# Altium footprint library Inductors SMD.PcbLib: 75 footprints (part 1 of 5)
Each footprint in its own frame and in the unit in brackets; x right, y up, seen from the top. Pads: shape width x height; smd on the part's side, far side on the other; paste and mask are expansions set on the pad; w line width, h text height; cw(c..) or ccw(c..) is an arc to the next point about the centre after c.
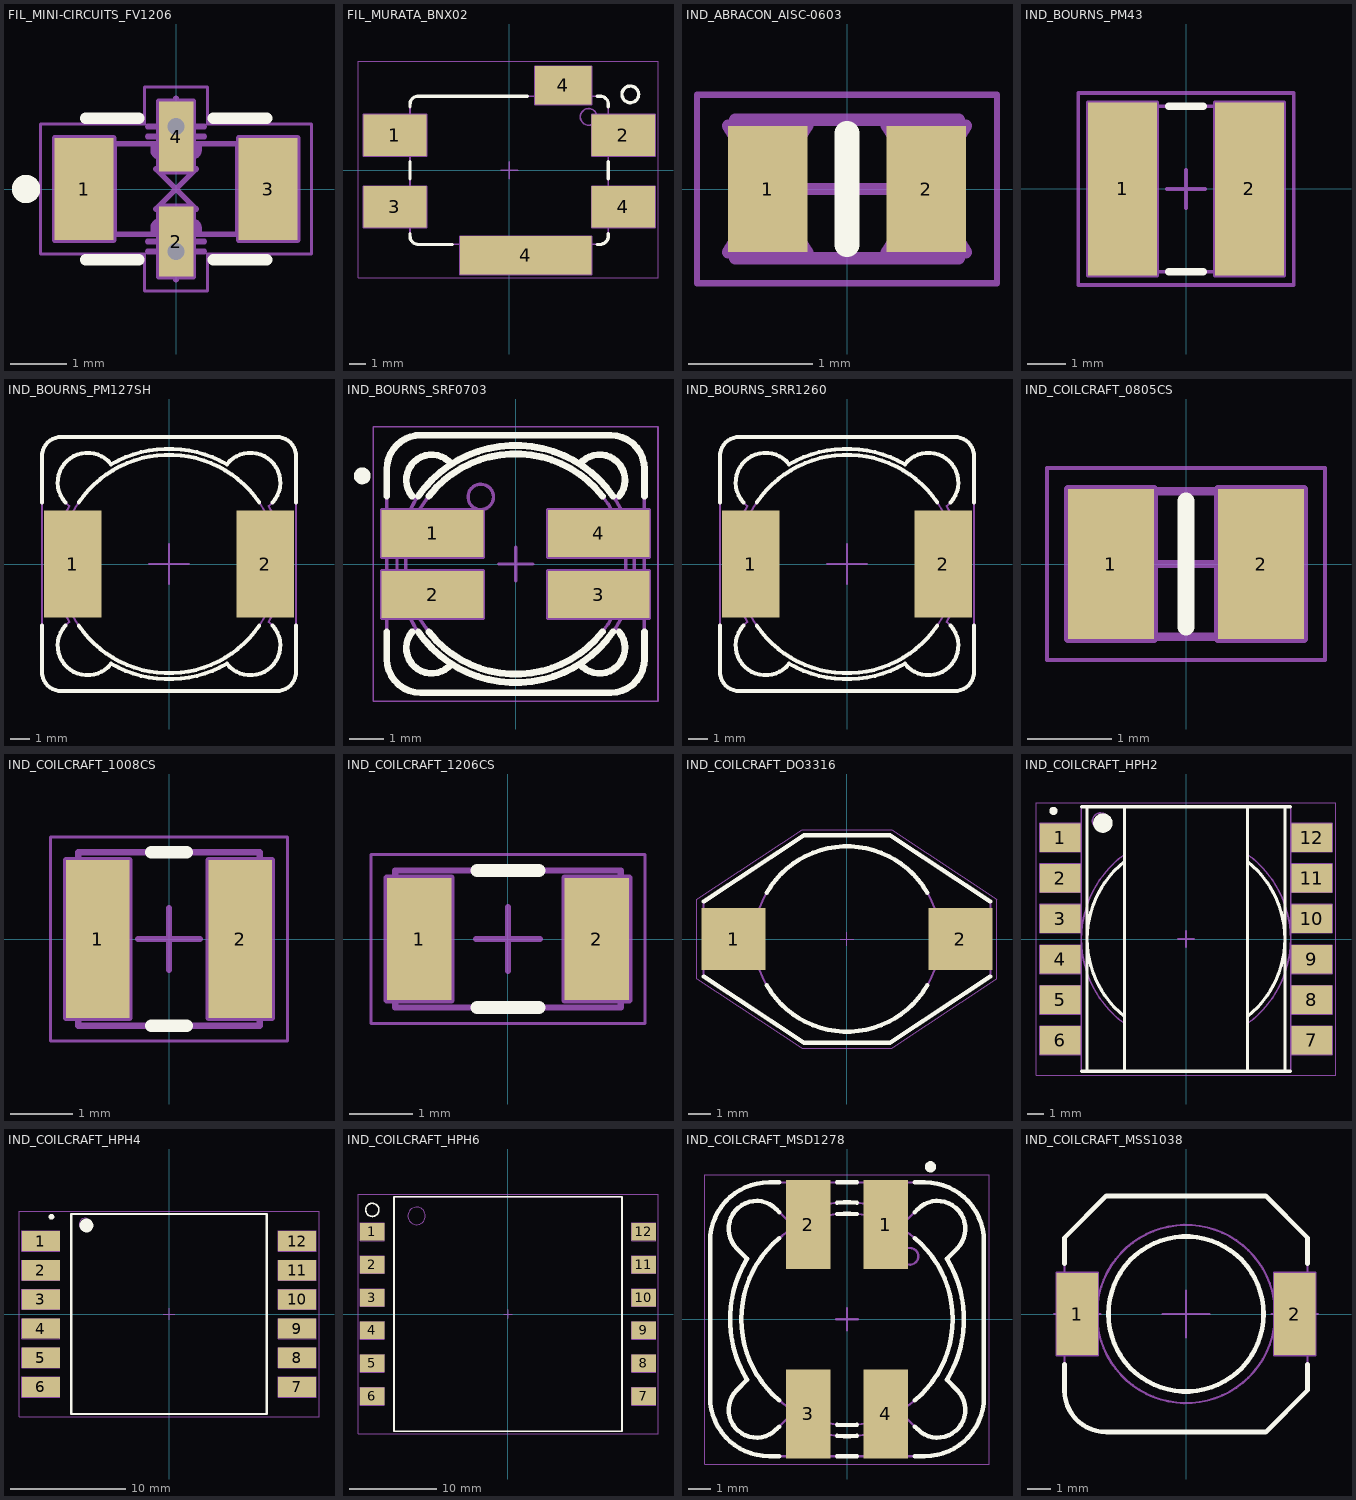
[diagram p0: the footprints below, top view; thin cyan lines are the x and y axes]

## FIL_MINI-CIRCUITS_FV1206 [mm] "MINI-CIRCUITS Case FV1206 - Body 3.2x1.6mm"
height 0.94
pads (4):
  rect 1.04x1.8 smd: 1(-1.625,0) 3(1.625,0)
  rect 0.61x1.245 smd: 2(0,-0.928) 4(0,0.927)
via 0,1.105 diameter 0.6 hole 0.3
via 0,-1.105 diameter 0.6 hole 0.3
Top Overlay:
  circle w0.25: c-2.65,0 r0.125
  lines w0.2: -1.6,-1.25 -0.655,-1.25 ; -1.6,1.25 -0.655,1.25 ; 0.655,-1.25 1.6,-1.25 ; 0.655,1.25 1.6,1.25
Mechanical 8:
  lines w0.1: -2.125,0 -1.625,0 ; -1.625,-0.5 -1.625,0 ; -1.625,0.5 -1.625,0 ; -1.125,0 -1.625,0 ; -0.5,-1.105 0,-1.105 ; -0.5,-0.928 0,-0.928 ; -0.5,0.927 0,0.927 ; -0.5,1.105 0,1.105 ; -0.354,-0.354 0,0 ; -0.354,0.353 0,0 ; 0,-1.605 0,-1.105 ; 0,-0.428 0,-0.928 ; 0,0.427 0,0.927 ; 0,1.605 0,1.105 ; 0.354,-0.354 0,0 ; 0.354,0.353 0,0 ; 0.5,-1.105 0,-1.105 ; 0.5,-0.928 0,-0.928 ; 0.5,0.927 0,0.927 ; 0.5,1.105 0,1.105 ; 1.125,0 1.625,0 ; 1.625,-0.5 1.625,0 ; 1.625,0.5 1.625,0 ; 2.125,0 1.625,0 ; -2.145,-0.9 -2.145,0.9 -1.105,0.9 -1.105,-0.9 -2.145,-0.9 ; -0.305,-1.55 0.305,-1.55 0.305,-0.305 -0.305,-0.305 -0.305,-1.55 ; -0.305,0.305 0.305,0.305 0.305,1.55 -0.305,1.55 -0.305,0.305 ; 1.105,-0.9 1.105,0.9 2.145,0.9 2.145,-0.9 1.105,-0.9
Mechanical 14:
  lines w0.1: -1.5,-0.8 -1.5,0.8 ; -1.4,-0.8 -1.4,0.8 ; -1.3,-0.8 -1.3,0.8 ; -1.2,-0.8 -1.2,0.8 ; -1.1,-0.8 -1.1,0.8 ; -1.09,-0.8 -1.09,0.8 ; -1.09,-0.8 -1.6,-0.8 -1.6,0.8 -1.09,0.8 ; -1.09,-0.8 1.09,-0.8 ; -1.09,-0.8 -1.09,0.8 ; -1.09,0.8 1.09,0.8 ; 1.09,-0.8 1.09,0.8 ; 1.09,-0.8 1.6,-0.8 1.6,0.8 1.09,0.8 ; 1.09,-0.8 1.09,0.8 ; -0.405,-0.8 0.405,-0.8 0.405,-0.685 ccw(c0.29,-0.685) 0.29,-0.57 -0.29,-0.57 ccw(c-0.29,-0.685) -0.405,-0.685 -0.405,-0.8 ; -0.405,0.685 ccw(c-0.29,0.685) -0.29,0.57 0.29,0.57 ccw(c0.29,0.685) 0.405,0.685 0.405,0.8 -0.405,0.8 -0.405,0.685
Mechanical 15:
  lines w0.05: -2.395,-1.15 -2.395,1.15 -0.555,1.15 -0.555,1.8 0.555,1.8 0.555,1.15 2.395,1.15 2.395,-1.15 0.555,-1.15 0.555,-1.8 -0.555,-1.8 -0.555,-1.15 -2.395,-1.15
Drill Drawing:
  lines w0.1: -0.555,-1.05 -0.555,-1.8 0.555,-1.8 0.555,-1.05 ; -0.555,1.05 -0.555,1.8 0.555,1.8 0.555,1.05
  text "capped via" at -2.45,-0.55 h0.5
  text "Filled and" at -2.4,0.2 h0.5
3D body "FIL_MINI-CIRCUITS_FV1206.stp": height 0.94, standoff 0, extent -1.6,-0.8 1.6,0.8

## FIL_MURATA_BNX02 [mm] "Block Type EMIFIL LC Combined Type, BNX02* Series"
height 3.3
pads (6):
  rect 3.8x2.5 smd: 1(-6.85,2.1) 2(6.85,2.1) 3(-6.85,-2.2) 4(6.85,-2.2)
  rect 7.9x2.3 smd: 4(1,-5.1)
  rect 3.4x2.3 smd: 4(3.25,5.1)
Top Overlay:
  circle w0.2: c7.268,4.554 r0.5
  lines w0.2: -5.95,-3.8 -5.95,-3.95 ccw(c-5.45,-3.95) -5.45,-4.45 -3.42,-4.45 ; -5.95,-0.5 -5.95,0.5 ; -5.95,3.8 -5.95,3.95 cw(c-5.45,3.95) -5.45,4.45 1.08,4.45 ; 5.28,-4.45 5.45,-4.45 ccw(c5.45,-3.95) 5.95,-3.95 5.95,-3.8 ; 5.28,4.45 5.45,4.45 cw(c5.45,3.95) 5.95,3.95 5.95,3.8 ; 5.95,-0.5 5.95,0.5
Mechanical 8:
  lines w0.1: -7.35,-2.2 -6.85,-2.2 ; -7.35,2.1 -6.85,2.1 ; -6.85,-2.7 -6.85,-2.2 ; -6.85,-1.7 -6.85,-2.2 ; -6.85,1.6 -6.85,2.1 ; -6.85,2.6 -6.85,2.1 ; -6.35,-2.2 -6.85,-2.2 ; -6.35,2.1 -6.85,2.1 ; -0.5,0 0,0 ; 0,-0.5 0,0 ; 0,0.5 0,0 ; 0.5,-5.1 1,-5.1 ; 0.5,0 0,0 ; 1,-5.6 1,-5.1 ; 1,-4.6 1,-5.1 ; 1.5,-5.1 1,-5.1 ; 2.75,5.1 3.25,5.1 ; 3.25,4.6 3.25,5.1 ; 3.25,5.6 3.25,5.1 ; 3.75,5.1 3.25,5.1 ; 6.35,-2.2 6.85,-2.2 ; 6.35,2.1 6.85,2.1 ; 6.85,-2.7 6.85,-2.2 ; 6.85,-1.7 6.85,-2.2 ; 6.85,1.6 6.85,2.1 ; 6.85,2.6 6.85,2.1 ; 7.35,-2.2 6.85,-2.2 ; 7.35,2.1 6.85,2.1 ; -8.75,-3.45 -8.75,-0.95 -4.95,-0.95 -4.95,-3.45 -8.75,-3.45 ; -8.75,0.85 -4.95,0.85 -4.95,3.35 -8.75,3.35 -8.75,0.85 ; -2.95,-6.25 -2.95,-3.95 4.95,-3.95 4.95,-6.25 -2.95,-6.25 ; 1.55,3.95 4.95,3.95 4.95,6.25 1.55,6.25 1.55,3.95 ; 4.95,-3.45 8.75,-3.45 8.75,-0.95 4.95,-0.95 4.95,-3.45 ; 4.95,0.85 4.95,3.35 8.75,3.35 8.75,0.85 4.95,0.85
Mechanical 14:
  circle w0.1: c4.768,3.204 r0.5
  lines w0.1: -5.95,-2.75 -6.05,-2.75 -6.05,-1.45 -5.95,-1.45 ; -5.95,1.45 -6.05,1.45 -6.05,2.75 -5.95,2.75 ; -2.5,-4.45 -2.5,-4.55 4.5,-4.55 4.5,-4.45 ; 2,4.45 2,4.55 4.5,4.55 4.5,4.45 ; 5.95,-2.75 6.05,-2.75 6.05,-1.45 5.95,-1.45 ; 5.95,1.45 6.05,1.45 6.05,2.75 5.95,2.75 ; -5.95,-3.95 ccw(c-5.45,-3.95) -5.45,-4.45 5.45,-4.45 ccw(c5.45,-3.95) 5.95,-3.95 5.95,3.95 ccw(c5.45,3.95) 5.45,4.45 -5.45,4.45 ccw(c-5.45,3.95) -5.95,3.95 -5.95,-3.95
Mechanical 15:
  lines w0.05: -9.07,-6.45 8.93,-6.45 8.93,6.55 -9.07,6.55 -9.07,-6.45
3D body "FIL_MURATA_BNX02.stp": height 3.1, standoff 0, extent -6.05,-4.55 6.05,4.55

## IND_ABRACON_AISC-0603 [mm] "Inductor, Molded Body; 1.8mm L X 1.12mm W, AISC-0603 Serie"
height 1.02
pads (2):
  rect 0.64x1.02 smd: 1(-0.64,0) 2(0.64,0)
Top Overlay:
  lines w0.2: 0,-0.45 0,0.45
Mechanical 8:
  lines w0.1: -0.96,-0.51 -0.64,0 ; -0.96,0.51 -0.64,0 ; -0.5,0 0,0 ; -0.32,-0.51 -0.64,0 ; -0.32,0.51 -0.64,0 ; 0,-0.5 0,0 ; 0,0.5 0,0 ; 0.32,-0.51 0.64,0 ; 0.32,0.51 0.64,0 ; 0.5,0 0,0 ; 0.96,-0.51 0.64,0 ; 0.96,0.51 0.64,0
Mechanical 14:
  lines w0.1: -0.9,-0.56 -0.9,0.56 0.9,0.56 0.9,-0.56 -0.9,-0.56
Mechanical 15:
  lines w0.05: -1.21,-0.76 1.21,-0.76 1.21,0.76 -1.21,0.76 -1.21,-0.76
3D body "IND_ABRACON_AISC-0603.stp": height 1, standoff 0, extent -0.9,-0.56 0.9,0.56

## IND_BOURNS_PM43 [mm] "SMD Inductor  Body Width 4.5mm Body Lenght 4mm Height 3.5mm"
height 3.5
pads (2):
  rect 1.8x4.5 smd: 1(-1.65,0) 2(1.65,0)
Top Overlay:
  lines w0.2: -0.45,-2.15 0.45,-2.15 ; -0.45,2.15 0.45,2.15
Mechanical 8:
  lines w0.1: -2.15,0 -1.65,0 ; -1.65,-0.5 -1.65,0 ; -1.65,0.5 -1.65,0 ; -1.15,0 -1.65,0 ; -0.5,0 0,0 ; 0,-0.5 0,0 ; 0,0.5 0,0 ; 0.5,0 0,0 ; 1.15,0 1.65,0 ; 1.65,-0.5 1.65,0 ; 1.65,0.5 1.65,0 ; 2.15,0 1.65,0 ; -2.55,-2.25 -0.75,-2.25 -0.75,2.25 -2.55,2.25 -2.55,-2.25 ; 0.75,-2.25 2.55,-2.25 2.55,2.25 0.75,2.25 0.75,-2.25
Mechanical 14:
  lines w0.1: -0.75,-2.15 -0.75,2.15 ; 0.75,-2.15 0.75,2.15 ; -2.381,-0.3 ccw(c0,0) -1.067,-2.15 1.067,-2.15 ccw(c0,0) 2.381,-0.3 2.1,-0.3 cw(c2.1,0) 2.1,0.3 2.381,0.3 ccw(c0,0) 1.067,2.15 -1.067,2.15 ccw(c0,0) -2.381,0.3 -2.1,0.3 cw(c-2.1,0) -2.1,-0.3 -2.381,-0.3
Mechanical 15:
  lines w0.1: -2.8,-2.5 -2.8,2.5 2.8,2.5 2.8,-2.5 -2.8,-2.5
3D body "IND_BOURNS_PM43.stp": height 3.5, standoff 0, extent -2.381,-2.15 2.381,2.15

## IND_BOURNS_PM127SH [mm] "SMD Inductor  Body Width 12.5mm Body Lenght 12.5mm Height 8mm"
height 8
pads (2):
  rect 2.9x5.4 smd: 1(-4.85,0) 2(4.85,0)
Top Overlay:
  lines w0.2: -6.4,-3.1 -6.4,-5.4 ccw(c-5.4,-5.4) -5.4,-6.4 5.4,-6.4 ccw(c5.4,-5.4) 6.4,-5.4 6.4,-3.1 ; -6.4,3.1 -6.4,5.4 cw(c-5.4,5.4) -5.4,6.4 5.4,6.4 cw(c5.4,5.4) 6.4,5.4 6.4,3.1 ; -5.218,-3.1 ccw(c-4.101,-4.101) -2.912,-5.016 ccw(c0,0) 2.912,-5.016 ccw(c4.101,-4.101) 5.218,-3.1 ; -5.218,3.1 cw(c-4.101,4.101) -2.912,5.016 cw(c0,0) 2.912,5.016 cw(c4.101,4.101) 5.218,3.1 ; -4.543,-3.1 ccw(c0,0) 4.543,-3.1 ; -4.543,3.1 cw(c0,0) 4.543,3.1
Mechanical 8:
  lines w0.1: -5.85,0 -4.85,0 ; -4.85,-1 -4.85,0 ; -4.85,1 -4.85,0 ; -3.85,0 -4.85,0 ; -1,0 0,0 ; 0,-1 0,0 ; 0,1 0,0 ; 1,0 0,0 ; 3.85,0 4.85,0 ; 4.85,-1 4.85,0 ; 4.85,1 4.85,0 ; 5.85,0 4.85,0
Mechanical 14:
  circle w0.1: c0,0 r5.5
  lines w0.1: -6.4,-5.4 ccw(c-5.4,-5.4) -5.4,-6.4 5.4,-6.4 ccw(c5.4,-5.4) 6.4,-5.4 6.4,5.4 ccw(c5.4,5.4) 5.4,6.4 -5.4,6.4 ccw(c-5.4,5.4) -6.4,5.4 -6.4,-5.4 ; -5.016,-2.912 ccw(c-4.101,-4.101) -2.912,-5.016 ccw(c0,0) 2.912,-5.016 ccw(c4.101,-4.101) 5.016,-2.912 ccw(c0,0) 5.016,2.912 ccw(c4.101,4.101) 2.912,5.016 ccw(c0,0) -2.912,5.016 ccw(c-4.101,4.101) -5.016,2.912 ccw(c0,0) -5.016,-2.912
3D body "IND_BOURNS_PM127SH.stp": height 8, standoff 0, extent -6.4,-6.4 6.4,6.4

## IND_BOURNS_SRF0703 [mm] "SMD Inductor  Body Width 7.6mm Body Lenght 7.6mm Height 3.6mm"
height 3.6
pads (4):
  rect 3x1.4 smd: 1(-2.45,0.9) 2(-2.45,-0.9) 3(2.45,-0.9) 4(2.45,0.9)
Top Overlay:
  circle w0.25: c-4.525,2.6 r0.125
  lines w0.2: -3.8,-2 -3.8,-2.8 ccw(c-2.8,-2.8) -2.8,-3.8 2.8,-3.8 ccw(c2.8,-2.8) 3.8,-2.8 3.8,-2 ; -3.8,2 -3.8,2.8 cw(c-2.8,2.8) -2.8,3.8 2.8,3.8 cw(c2.8,2.8) 3.8,2.8 3.8,2 ; -3.055,-2 ccw(c-2.475,-2.475) -1.891,-2.945 ; -3.055,2 cw(c-2.475,2.475) -1.891,2.945 ; -2.872,-2 ccw(c0,0) 2.872,-2 ; -2.872,2 cw(c0,0) 2.872,2 ; -2.562,-2 ccw(c0,0) 2.562,-2 ; -2.562,2 cw(c0,0) 2.562,2 ; 1.891,-2.945 ccw(c2.475,-2.475) 3.055,-2 ; 1.891,2.945 cw(c2.475,2.475) 3.055,2
Mechanical 8:
  lines w0.1: -2.95,-0.9 -2.45,-0.9 ; -2.95,0.9 -2.45,0.9 ; -2.45,-1.4 -2.45,-0.9 ; -2.45,-0.4 -2.45,-0.9 ; -2.45,0.4 -2.45,0.9 ; -2.45,1.4 -2.45,0.9 ; -1.95,-0.9 -2.45,-0.9 ; -1.95,0.9 -2.45,0.9 ; -0.5,0 0,0 ; 0,-0.5 0,0 ; 0,0.5 0,0 ; 0.5,0 0,0 ; 1.95,-0.9 2.45,-0.9 ; 1.95,0.9 2.45,0.9 ; 2.45,-1.4 2.45,-0.9 ; 2.45,-0.4 2.45,-0.9 ; 2.45,0.4 2.45,0.9 ; 2.45,1.4 2.45,0.9 ; 2.95,-0.9 2.45,-0.9 ; 2.95,0.9 2.45,0.9 ; -3.95,-1.6 -0.95,-1.6 -0.95,-0.2 -3.95,-0.2 -3.95,-1.6 ; -3.95,0.2 -0.95,0.2 -0.95,1.6 -3.95,1.6 -3.95,0.2 ; 0.95,-1.6 0.95,-0.2 3.95,-0.2 3.95,-1.6 0.95,-1.6 ; 0.95,0.2 0.95,1.6 3.95,1.6 3.95,0.2 0.95,0.2
Mechanical 14:
  circle w0.1: c0,0 r3.5
  circle w0.1: c0,0 r3.25
  circle w0.1: c-1.028,1.978 r0.375
  lines w0.1: -2.945,-1.891 ccw(c-2.475,-2.475) -1.891,-2.945 ; -2.945,1.891 cw(c-2.475,2.475) -1.891,2.945 ; 1.891,-2.945 ccw(c2.475,-2.475) 2.945,-1.891 ; 1.891,2.945 cw(c2.475,2.475) 2.945,1.891 ; -3.8,-2.8 ccw(c-2.8,-2.8) -2.8,-3.8 2.8,-3.8 ccw(c2.8,-2.8) 3.8,-2.8 3.8,2.8 ccw(c2.8,2.8) 2.8,3.8 -2.8,3.8 ccw(c-2.8,2.8) -3.8,2.8 -3.8,-2.8
Mechanical 15:
  lines w0.05: -4.2,-4.05 -4.2,4.05 4.2,4.05 4.2,-4.05 -4.2,-4.05
3D body "IND_BOURNS_SRF0703.stp": height 3.6, standoff 0, extent -3.8,-3.8 3.8,3.8

## IND_BOURNS_SRR1260 [mm] "SMD Inductor  Body Width 12.5mm Body Lenght 12.5mm Height 6.5mm"
height 6.5
pads (2):
  rect 2.9x5.4 smd: 1(-4.85,0) 2(4.85,0)
Top Overlay:
  lines w0.2: -6.4,-3.1 -6.4,-5.4 ccw(c-5.4,-5.4) -5.4,-6.4 5.4,-6.4 ccw(c5.4,-5.4) 6.4,-5.4 6.4,-3.1 ; -6.4,3.1 -6.4,5.4 cw(c-5.4,5.4) -5.4,6.4 5.4,6.4 cw(c5.4,5.4) 6.4,5.4 6.4,3.1 ; -5.218,-3.1 ccw(c-4.101,-4.101) -2.912,-5.016 ccw(c0,0) 2.912,-5.016 ccw(c4.101,-4.101) 5.218,-3.1 ; -5.218,3.1 cw(c-4.101,4.101) -2.912,5.016 cw(c0,0) 2.912,5.016 cw(c4.101,4.101) 5.218,3.1 ; -4.543,-3.1 ccw(c0,0) 4.543,-3.1 ; -4.543,3.1 cw(c0,0) 4.543,3.1
Mechanical 8:
  lines w0.1: -5.85,0 -4.85,0 ; -4.85,-1 -4.85,0 ; -4.85,1 -4.85,0 ; -3.85,0 -4.85,0 ; -1,0 0,0 ; 0,-1 0,0 ; 0,1 0,0 ; 1,0 0,0 ; 3.85,0 4.85,0 ; 4.85,-1 4.85,0 ; 4.85,1 4.85,0 ; 5.85,0 4.85,0
Mechanical 14:
  circle w0.1: c0,0 r5.5
  lines w0.1: -6.4,-5.4 ccw(c-5.4,-5.4) -5.4,-6.4 5.4,-6.4 ccw(c5.4,-5.4) 6.4,-5.4 6.4,5.4 ccw(c5.4,5.4) 5.4,6.4 -5.4,6.4 ccw(c-5.4,5.4) -6.4,5.4 -6.4,-5.4 ; -5.016,-2.912 ccw(c-4.101,-4.101) -2.912,-5.016 ccw(c0,0) 2.912,-5.016 ccw(c4.101,-4.101) 5.016,-2.912 ccw(c0,0) 5.016,2.912 ccw(c4.101,4.101) 2.912,5.016 ccw(c0,0) -2.912,5.016 ccw(c-4.101,4.101) -5.016,2.912 ccw(c0,0) -5.016,-2.912
3D body "IND_BOURNS_SRR1260.stp": height 6.5, standoff 0, extent -6.4,-6.4 6.4,6.4

## IND_COILCRAFT_0805CS [mm] "SMD Inductor  Body Width 1.73mm Body Lenght 2.29mm Height 1.52mm, 0805CS Serie"
height 1.52
pads (2):
  rect 1.02x1.78 smd: 1(-0.89,0) 2(0.89,0)
Top Overlay:
  lines w0.2: 0,-0.75 0,0.75
Mechanical 8:
  lines w0.1: -1.39,0 -0.89,0 ; -0.89,-0.5 -0.89,0 ; -0.89,0.5 -0.89,0 ; -0.5,0 0,0 ; -0.39,0 -0.89,0 ; 0,-0.5 0,0 ; 0,0.5 0,0 ; 0.39,0 0.89,0 ; 0.5,0 0,0 ; 0.89,-0.5 0.89,0 ; 0.89,0.5 0.89,0 ; 1.39,0 0.89,0 ; -1.4,-0.89 -1.4,0.89 -0.38,0.89 -0.38,-0.89 -1.4,-0.89 ; 0.38,-0.89 0.38,0.89 1.4,0.89 1.4,-0.89 0.38,-0.89
Mechanical 14:
  lines w0.1: -1.145,-0.863 1.145,-0.863 1.145,0.863 -1.145,0.863 -1.145,-0.863
Mechanical 15:
  lines w0.05: -1.65,-1.14 -1.65,1.14 1.65,1.14 1.65,-1.14 -1.65,-1.14
3D body "IND_COILCRAFT_0805CS.stp": height 1.52, standoff 0, extent -1.144,-0.862 1.145,0.863

## IND_COILCRAFT_1008CS [mm] "SMD Inductor  Body Width 2.79m Body Lenght 2.92mm Height 2.03mm"
height 2.03
pads (2):
  rect 1.02x2.54 smd: 1(-1.145,0) 2(1.145,0)
Top Overlay:
  lines w0.2: -0.285,-1.395 0.285,-1.395 ; -0.285,1.395 0.285,1.395
Mechanical 8:
  lines w0.1: -1.645,0 -1.145,0 ; -1.145,-0.5 -1.145,0 ; -1.145,0.5 -1.145,0 ; -0.645,0 -1.145,0 ; -0.5,0 0,0 ; 0,-0.5 0,0 ; 0,0.5 0,0 ; 0.5,0 0,0 ; 0.645,0 1.145,0 ; 1.145,-0.5 1.145,0 ; 1.145,0.5 1.145,0 ; 1.645,0 1.145,0 ; -1.655,-1.27 -1.655,1.27 -0.635,1.27 -0.635,-1.27 -1.655,-1.27 ; 0.635,-1.27 0.635,1.27 1.655,1.27 1.655,-1.27 0.635,-1.27
Mechanical 14:
  lines w0.1: -1.46,-1.395 1.46,-1.395 1.46,1.395 -1.46,1.395 -1.46,-1.395
Mechanical 15:
  lines w0.05: -1.905,-1.645 -1.905,1.645 1.905,1.645 1.905,-1.645 -1.905,-1.645
3D body "IND_COILCRAFT_1008CS.stp": height 2.18, standoff 0, extent -1.46,-1.395 1.46,1.395

## IND_COILCRAFT_1206CS [mm] "SMD Inductor  Body Width 2.16mm Body Lenght 3.56mm Height 1.52mm, 1206CS Serie"
height 1.52
pads (2):
  rect 1.02x1.93 smd: 1(-1.4,0) 2(1.4,0)
Top Overlay:
  lines w0.2: -0.49,-1.08 0.49,-1.08 ; -0.49,1.08 0.49,1.08
Mechanical 8:
  lines w0.1: -1.9,0 -1.4,0 ; -1.4,-0.5 -1.4,0 ; -1.4,0.5 -1.4,0 ; -0.9,0 -1.4,0 ; -0.5,0 0,0 ; 0,-0.5 0,0 ; 0,0.5 0,0 ; 0.5,0 0,0 ; 0.9,0 1.4,0 ; 1.4,-0.5 1.4,0 ; 1.4,0.5 1.4,0 ; 1.9,0 1.4,0 ; -1.91,-0.965 -0.89,-0.965 -0.89,0.965 -1.91,0.965 -1.91,-0.965 ; 0.89,-0.965 1.91,-0.965 1.91,0.965 0.89,0.965 0.89,-0.965
Mechanical 14:
  lines w0.1: -1.78,-1.08 1.78,-1.08 1.78,1.08 -1.78,1.08 -1.78,-1.08
Mechanical 15:
  lines w0.05: -2.16,-1.33 2.16,-1.33 2.16,1.33 -2.16,1.33 -2.16,-1.33
3D body "IND_COILCRAFT_1206CS.stp": height 1.51, standoff 0, extent -1.78,-1.08 1.78,1.08

## IND_COILCRAFT_DO3316 [mm] "SMD Inductor  Body Width 9.4mm Body Lenght 12.95mm Height 5.21mm"
height 5.21
pads (2):
  rect 2.92x2.79 smd: 1(-5.145,0) 2(5.145,0)
Top Overlay:
  lines w0.2: -6.5,-1.7 -1.95,-4.7 1.95,-4.7 6.5,-1.7 ; -6.5,1.7 -1.95,4.7 1.95,4.7 6.5,1.7 ; -3.637,-2.1 ccw(c0,0) 3.637,-2.1 ; -3.637,2.1 cw(c0,0) 3.637,2.1
Mechanical 14:
  circle w0.1: c0,0 r4.2
  lines w0.1: -6.5,-1.7 -1.95,-4.7 1.95,-4.7 6.5,-1.7 6.5,1.7 1.95,4.7 -1.95,4.7 -6.5,1.7 -6.5,-1.7
Mechanical 15:
  lines w0.05: -0.3,0 0.3,0 ; 0,-0.3 0,0.3 ; -6.8,-1.802 -2.025,-4.95 2.025,-4.95 6.8,-1.802 6.8,1.802 2.025,4.95 -2.025,4.95 -6.8,1.802 -6.8,-1.802
3D body "IND_COILCRAFT_DO3316.stp": height 5.2, standoff 0, extent -6.475,-4.7 6.475,4.7

## IND_COILCRAFT_HPH2 [mm] "Hexa-Path Magnetics, Six 1:1 Isolated Windings, HPH2 Case"
height 7.4
pads (12):
  rect 2.5x1.75 smd: 1(-7.75,6.25) 2(-7.75,3.75) 3(-7.75,1.25) 4(-7.75,-1.25) 5(-7.75,-3.75) 6(-7.75,-6.25) 7(7.75,-6.25) 8(7.75,-3.75) 9(7.75,-1.25) 10(7.75,1.25) 11(7.75,3.75) 12(7.75,6.25)
Top Overlay:
  circle w0.6: c-5.125,7.15 r0.3
  circle w0.25: c-8.175,7.9 r0.125
  lines w0.2: -6.45,-8.15 6.45,-8.15 ; -6.45,8.15 6.45,8.15 ; -6.1,-8.15 -6.1,8.15 ; -3.8,-8.15 -3.8,8.15 ; -3.8,-4.772 cw(c0,0) -3.8,4.772 ; 3.8,-8.15 3.8,8.15 ; 3.8,-4.772 ccw(c0,0) 3.8,4.772 ; 6.1,-8.15 6.1,8.15
Mechanical 8:
  lines w0.1: -8.25,-6.25 -7.75,-6.25 ; -8.25,-3.75 -7.75,-3.75 ; -8.25,-1.25 -7.75,-1.25 ; -8.25,1.25 -7.75,1.25 ; -8.25,3.75 -7.75,3.75 ; -8.25,6.25 -7.75,6.25 ; -7.75,-6.75 -7.75,-6.25 ; -7.75,-5.75 -7.75,-6.25 ; -7.75,-4.25 -7.75,-3.75 ; -7.75,-3.25 -7.75,-3.75 ; -7.75,-1.75 -7.75,-1.25 ; -7.75,-0.75 -7.75,-1.25 ; -7.75,0.75 -7.75,1.25 ; -7.75,1.75 -7.75,1.25 ; -7.75,3.25 -7.75,3.75 ; -7.75,4.25 -7.75,3.75 ; -7.75,5.75 -7.75,6.25 ; -7.75,6.75 -7.75,6.25 ; -7.25,-6.25 -7.75,-6.25 ; -7.25,-3.75 -7.75,-3.75 ; -7.25,-1.25 -7.75,-1.25 ; -7.25,1.25 -7.75,1.25 ; -7.25,3.75 -7.75,3.75 ; -7.25,6.25 -7.75,6.25 ; -0.5,0 0,0 ; 0,-0.5 0,0 ; 0,0.5 0,0 ; 0.5,0 0,0 ; 7.25,-6.25 7.75,-6.25 ; 7.25,-3.75 7.75,-3.75 ; 7.25,-1.25 7.75,-1.25 ; 7.25,1.25 7.75,1.25 ; 7.25,3.75 7.75,3.75 ; 7.25,6.25 7.75,6.25 ; 7.75,-6.75 7.75,-6.25 ; 7.75,-5.75 7.75,-6.25 ; 7.75,-4.25 7.75,-3.75 ; 7.75,-3.25 7.75,-3.75 ; 7.75,-1.75 7.75,-1.25 ; 7.75,-0.75 7.75,-1.25 ; 7.75,0.75 7.75,1.25 ; 7.75,1.75 7.75,1.25 ; 7.75,3.25 7.75,3.75 ; 7.75,4.25 7.75,3.75 ; 7.75,5.75 7.75,6.25 ; 7.75,6.75 7.75,6.25 ; 8.25,-6.25 7.75,-6.25 ; 8.25,-3.75 7.75,-3.75 ; 8.25,-1.25 7.75,-1.25 ; 8.25,1.25 7.75,1.25 ; 8.25,3.75 7.75,3.75 ; 8.25,6.25 7.75,6.25 ; -9,-7.125 -6.5,-7.125 -6.5,-5.375 -9,-5.375 -9,-7.125 ; -9,-4.625 -6.5,-4.625 -6.5,-2.875 -9,-2.875 -9,-4.625 ; -9,-2.125 -6.5,-2.125 -6.5,-0.375 -9,-0.375 -9,-2.125 ; -9,0.375 -6.5,0.375 -6.5,2.125 -9,2.125 -9,0.375 ; -9,2.875 -6.5,2.875 -6.5,4.625 -9,4.625 -9,2.875 ; -9,5.375 -6.5,5.375 -6.5,7.125 -9,7.125 -9,5.375 ; 6.5,-7.125 9,-7.125 9,-5.375 6.5,-5.375 6.5,-7.125 ; 6.5,-4.625 9,-4.625 9,-2.875 6.5,-2.875 6.5,-4.625 ; 6.5,-2.125 9,-2.125 9,-0.375 6.5,-0.375 6.5,-2.125 ; 6.5,0.375 9,0.375 9,2.125 6.5,2.125 6.5,0.375 ; 6.5,2.875 9,2.875 9,4.625 6.5,4.625 6.5,2.875 ; 6.5,5.375 9,5.375 9,7.125 6.5,7.125 6.5,5.375
Mechanical 14:
  circle w0.1: c-5.275,7.275 r0.5
  lines w0.1: -3.8,-8.15 -3.8,8.15 ; -3.8,-5.212 cw(c0,0) -3.8,5.212 ; 3.8,-8.15 3.8,8.15 ; 3.8,-5.212 ccw(c0,0) 3.8,5.212 ; -6.45,-8.15 -6.45,8.15 6.45,8.15 6.45,-8.15 -6.45,-8.15
Mechanical 15:
  lines w0.05: -9.25,-8.4 -9.25,8.4 9.25,8.4 9.25,-8.4 -9.25,-8.4
3D body "IND_COILCRAFT_HPH2.stp": height 7.4, standoff 0.01, extent -8.4,-8.15 8.4,8.15

## IND_COILCRAFT_HPH4 [mm] "Hexa-Path Magnetics, Two Trifilar Windings, HPH4 Case"
height 9.7
pads (12):
  rect 3.3x1.75 smd: 1(-11.15,6.35) 2(-11.15,3.81) 3(-11.15,1.27) 4(-11.15,-1.27) 5(-11.15,-3.81) 6(-11.15,-6.35) 7(11.15,-6.35) 8(11.15,-3.81) 9(11.15,-1.27) 10(11.15,1.27) 11(11.15,3.81) 12(11.15,6.35)
Top Overlay:
  circle w0.25: c-10.225,8.45 r0.125
  circle w0.6: c-7.175,7.7 r0.3
  lines w0.2: -8.5,-8.7 8.5,-8.7 8.5,8.7 -8.5,8.7 -8.5,-8.7
Mechanical 8:
  lines w0.1: -11.65,-6.35 -11.15,-6.35 ; -11.65,-3.81 -11.15,-3.81 ; -11.65,-1.27 -11.15,-1.27 ; -11.65,1.27 -11.15,1.27 ; -11.65,3.81 -11.15,3.81 ; -11.65,6.35 -11.15,6.35 ; -11.15,-6.85 -11.15,-6.35 ; -11.15,-5.85 -11.15,-6.35 ; -11.15,-4.31 -11.15,-3.81 ; -11.15,-3.31 -11.15,-3.81 ; -11.15,-1.77 -11.15,-1.27 ; -11.15,-0.77 -11.15,-1.27 ; -11.15,0.77 -11.15,1.27 ; -11.15,1.77 -11.15,1.27 ; -11.15,3.31 -11.15,3.81 ; -11.15,4.31 -11.15,3.81 ; -11.15,5.85 -11.15,6.35 ; -11.15,6.85 -11.15,6.35 ; -10.65,-6.35 -11.15,-6.35 ; -10.65,-3.81 -11.15,-3.81 ; -10.65,-1.27 -11.15,-1.27 ; -10.65,1.27 -11.15,1.27 ; -10.65,3.81 -11.15,3.81 ; -10.65,6.35 -11.15,6.35 ; -0.5,0 0,0 ; 0,-0.5 0,0 ; 0,0.5 0,0 ; 0.5,0 0,0 ; 10.65,-6.35 11.15,-6.35 ; 10.65,-3.81 11.15,-3.81 ; 10.65,-1.27 11.15,-1.27 ; 10.65,1.27 11.15,1.27 ; 10.65,3.81 11.15,3.81 ; 10.65,6.35 11.15,6.35 ; 11.15,-6.85 11.15,-6.35 ; 11.15,-5.85 11.15,-6.35 ; 11.15,-4.31 11.15,-3.81 ; 11.15,-3.31 11.15,-3.81 ; 11.15,-1.77 11.15,-1.27 ; 11.15,-0.77 11.15,-1.27 ; 11.15,0.77 11.15,1.27 ; 11.15,1.77 11.15,1.27 ; 11.15,3.31 11.15,3.81 ; 11.15,4.31 11.15,3.81 ; 11.15,5.85 11.15,6.35 ; 11.15,6.85 11.15,6.35 ; 11.65,-6.35 11.15,-6.35 ; 11.65,-3.81 11.15,-3.81 ; 11.65,-1.27 11.15,-1.27 ; 11.65,1.27 11.15,1.27 ; 11.65,3.81 11.15,3.81 ; 11.65,6.35 11.15,6.35 ; -12.8,-7.225 -12.8,-5.475 -9.5,-5.475 -9.5,-7.225 -12.8,-7.225 ; -12.8,-4.685 -12.8,-2.935 -9.5,-2.935 -9.5,-4.685 -12.8,-4.685 ; -12.8,-2.145 -12.8,-0.395 -9.5,-0.395 -9.5,-2.145 -12.8,-2.145 ; -12.8,0.395 -12.8,2.145 -9.5,2.145 -9.5,0.395 -12.8,0.395 ; -12.8,2.935 -12.8,4.685 -9.5,4.685 -9.5,2.935 -12.8,2.935 ; -12.8,5.475 -12.8,7.225 -9.5,7.225 -9.5,5.475 -12.8,5.475 ; 9.5,-7.225 9.5,-5.475 12.8,-5.475 12.8,-7.225 9.5,-7.225 ; 9.5,-4.685 9.5,-2.935 12.8,-2.935 12.8,-4.685 9.5,-4.685 ; 9.5,-2.145 9.5,-0.395 12.8,-0.395 12.8,-2.145 9.5,-2.145 ; 9.5,0.395 9.5,2.145 12.8,2.145 12.8,0.395 9.5,0.395 ; 9.5,2.935 9.5,4.685 12.8,4.685 12.8,2.935 9.5,2.935 ; 9.5,5.475 9.5,7.225 12.8,7.225 12.8,5.475 9.5,5.475
Mechanical 14:
  circle w0.1: c-7.325,7.825 r0.5
  lines w0.1: -8.5,-8.7 8.5,-8.7 8.5,8.7 -8.5,8.7 -8.5,-8.7
Mechanical 15:
  lines w0.05: -13.05,-8.95 13.05,-8.95 13.05,8.95 -13.05,8.95 -13.05,-8.95
3D body "IND_COILCRAFT_HPH4.stp": height 9.7, standoff 0, extent -12.065,-8.7 12.065,8.7

## IND_COILCRAFT_HPH6 [mm] "Hexa-Path Magnetics, Two Trifilar Windings, HPH6 Case"
height 13.6
pads (12):
  rect 2.75x2 smd: 1(-15.475,9.375) 2(-15.475,5.625) 3(-15.475,1.875) 4(-15.475,-1.875) 5(-15.475,-5.625) 6(-15.475,-9.375) 7(15.475,-9.375) 8(15.475,-5.625) 9(15.475,-1.875) 10(15.475,1.875) 11(15.475,5.625) 12(15.475,9.375)
Top Overlay:
  circle w0.2: c-15.475,11.875 r0.75
  lines w0.2: -13,-13.375 -13,13.375 13,13.375 13,-13.375 -13,-13.375
Mechanical 8:
  lines w0.1: -15.975,-9.375 -15.475,-9.375 ; -15.975,-5.625 -15.475,-5.625 ; -15.975,-1.875 -15.475,-1.875 ; -15.975,1.875 -15.475,1.875 ; -15.975,5.625 -15.475,5.625 ; -15.975,9.375 -15.475,9.375 ; -15.475,-9.875 -15.475,-9.375 ; -15.475,-8.875 -15.475,-9.375 ; -15.475,-6.125 -15.475,-5.625 ; -15.475,-5.125 -15.475,-5.625 ; -15.475,-2.375 -15.475,-1.875 ; -15.475,-1.375 -15.475,-1.875 ; -15.475,1.375 -15.475,1.875 ; -15.475,2.375 -15.475,1.875 ; -15.475,5.125 -15.475,5.625 ; -15.475,6.125 -15.475,5.625 ; -15.475,8.875 -15.475,9.375 ; -15.475,9.875 -15.475,9.375 ; -14.975,-9.375 -15.475,-9.375 ; -14.975,-5.625 -15.475,-5.625 ; -14.975,-1.875 -15.475,-1.875 ; -14.975,1.875 -15.475,1.875 ; -14.975,5.625 -15.475,5.625 ; -14.975,9.375 -15.475,9.375 ; -0.5,0 0,0 ; 0,-0.5 0,0 ; 0,0.5 0,0 ; 0.5,0 0,0 ; 14.975,-9.375 15.475,-9.375 ; 14.975,-5.625 15.475,-5.625 ; 14.975,-1.875 15.475,-1.875 ; 14.975,1.875 15.475,1.875 ; 14.975,5.625 15.475,5.625 ; 14.975,9.375 15.475,9.375 ; 15.475,-9.875 15.475,-9.375 ; 15.475,-8.875 15.475,-9.375 ; 15.475,-6.125 15.475,-5.625 ; 15.475,-5.125 15.475,-5.625 ; 15.475,-2.375 15.475,-1.875 ; 15.475,-1.375 15.475,-1.875 ; 15.475,1.375 15.475,1.875 ; 15.475,2.375 15.475,1.875 ; 15.475,5.125 15.475,5.625 ; 15.475,6.125 15.475,5.625 ; 15.475,8.875 15.475,9.375 ; 15.475,9.875 15.475,9.375 ; 15.975,-9.375 15.475,-9.375 ; 15.975,-5.625 15.475,-5.625 ; 15.975,-1.875 15.475,-1.875 ; 15.975,1.875 15.475,1.875 ; 15.975,5.625 15.475,5.625 ; 15.975,9.375 15.475,9.375 ; -16.85,-10.375 -14.1,-10.375 -14.1,-8.375 -16.85,-8.375 -16.85,-10.375 ; -16.85,-6.625 -14.1,-6.625 -14.1,-4.625 -16.85,-4.625 -16.85,-6.625 ; -16.85,-2.875 -14.1,-2.875 -14.1,-0.875 -16.85,-0.875 -16.85,-2.875 ; -16.85,0.875 -14.1,0.875 -14.1,2.875 -16.85,2.875 -16.85,0.875 ; -16.85,4.625 -14.1,4.625 -14.1,6.625 -16.85,6.625 -16.85,4.625 ; -16.85,8.375 -14.1,8.375 -14.1,10.375 -16.85,10.375 -16.85,8.375 ; 14.1,-10.375 16.85,-10.375 16.85,-8.375 14.1,-8.375 14.1,-10.375 ; 14.1,-6.625 16.85,-6.625 16.85,-4.625 14.1,-4.625 14.1,-6.625 ; 14.1,-2.875 16.85,-2.875 16.85,-0.875 14.1,-0.875 14.1,-2.875 ; 14.1,0.875 16.85,0.875 16.85,2.875 14.1,2.875 14.1,0.875 ; 14.1,4.625 16.85,4.625 16.85,6.625 14.1,6.625 14.1,4.625 ; 14.1,8.375 16.85,8.375 16.85,10.375 14.1,10.375 14.1,8.375
Mechanical 14:
  circle w0.1: c-10.409,11.181 r1
  lines w0.1: -13,-13.375 -13,13.375 13,13.375 13,-13.375 -13,-13.375
Mechanical 15:
  lines w0.05: -17.1,-13.625 17.1,-13.625 17.1,13.625 -17.1,13.625 -17.1,-13.625
3D body "IND_COILCRAFT_HPH6.stp": height 13.6, standoff 0, extent -16.325,-13.375 16.325,13.375

## IND_COILCRAFT_MSD1278 [mm] "SMD Inductor  Body Width 12.3mm Body Lenght 12.3mm Height 8.05mm"
height 8.05
pads (4):
  rect 2x4 smd: 1(1.75,4.25) 2(-1.75,4.25) 3(-1.75,-4.25) 4(1.75,-4.25)
Top Overlay:
  circle w0.25: c3.75,6.85 r0.125
  lines w0.2: -3.05,-6.15 -3.5,-6.15 cw(c-3.5,-3.5) -6.15,-3.5 -6.15,3.5 cw(c-3.5,3.5) -3.5,6.15 -3.05,6.15 ; -3.05,-4.818 -3.182,-4.95 cw(c-4.066,-4.066) -4.95,-3.182 -4.489,-2.722 cw(c0,0) -4.489,2.722 -4.95,3.182 cw(c-4.066,4.066) -3.182,4.95 -3.05,4.818 ; -3.05,-3.641 cw(c0,0) -3.05,3.641 ; -0.45,-6.15 0.45,-6.15 ; -0.45,-5.231 ccw(c0,0) 0.45,-5.231 ; -0.45,-4.729 ccw(c0,0) 0.45,-4.729 ; -0.45,4.729 cw(c0,0) 0.45,4.729 ; -0.45,5.231 cw(c0,0) 0.45,5.231 ; -0.45,6.15 0.45,6.15 ; 3.05,-6.15 3.5,-6.15 ccw(c3.5,-3.5) 6.15,-3.5 6.15,3.5 ccw(c3.5,3.5) 3.5,6.15 3.05,6.15 ; 3.05,-4.818 3.182,-4.95 ccw(c4.066,-4.066) 4.95,-3.182 4.489,-2.722 ccw(c0,0) 4.489,2.722 4.95,3.182 ccw(c4.066,4.066) 3.182,4.95 3.05,4.818 ; 3.05,-3.641 ccw(c0,0) 3.05,3.641
Mechanical 8:
  lines w0.1: -2.25,-4.25 -1.75,-4.25 ; -2.25,4.25 -1.75,4.25 ; -1.75,-4.75 -1.75,-4.25 ; -1.75,-3.75 -1.75,-4.25 ; -1.75,3.75 -1.75,4.25 ; -1.75,4.75 -1.75,4.25 ; -1.25,-4.25 -1.75,-4.25 ; -1.25,4.25 -1.75,4.25 ; -0.5,0 0,0 ; 0,-0.5 0,0 ; 0,0.5 0,0 ; 0.5,0 0,0 ; 1.25,-4.25 1.75,-4.25 ; 1.25,4.25 1.75,4.25 ; 1.75,-4.75 1.75,-4.25 ; 1.75,-3.75 1.75,-4.25 ; 1.75,3.75 1.75,4.25 ; 1.75,4.75 1.75,4.25 ; 2.25,-4.25 1.75,-4.25 ; 2.25,4.25 1.75,4.25
Mechanical 14:
  circle w0.1: c2.828,2.828 r0.375
  circle w0.1: c0,0 r4.75
  lines w0.1: -6.15,-3.5 ccw(c-3.5,-3.5) -3.5,-6.15 3.5,-6.15 ccw(c3.5,-3.5) 6.15,-3.5 6.15,3.5 ccw(c3.5,3.5) 3.5,6.15 -3.5,6.15 ccw(c-3.5,3.5) -6.15,3.5 -6.15,-3.5 ; -4.95,-3.182 ccw(c-4.066,-4.066) -3.182,-4.95 -2.722,-4.489 ccw(c0,0) 2.722,-4.489 3.182,-4.95 ccw(c4.066,-4.066) 4.95,-3.182 4.489,-2.722 ccw(c0,0) 4.489,2.722 4.95,3.182 ccw(c4.066,4.066) 3.182,4.95 2.722,4.489 ccw(c0,0) -2.722,4.489 -3.182,4.95 ccw(c-4.066,4.066) -4.95,3.182 -4.489,2.722 ccw(c0,0) -4.489,-2.722 -4.95,-3.182
Mechanical 15:
  lines w0.05: -6.4,-6.5 -6.4,6.5 6.4,6.5 6.4,-6.5 -6.4,-6.5
3D body "IND_COILCRAFT_MSD1278.stp": height 8.05, standoff 0, extent -6.15,-6.15 6.15,6.15

## IND_COILCRAFT_MSS1038 [mm] "SMD Inductor  Body Width 10mm Body Lenght 10.2mm Height 4mm"
height 4
pads (2):
  rect 1.78x3.56 smd: 1(-4.7,0) 2(4.7,0)
Top Overlay:
  circle w0.2: c0,0 r3.35
  lines w0.2: -5.25,-2.18 -5.25,-3.3 ccw(c-3.45,-3.3) -3.45,-5.1 3.45,-5.1 5.25,-3.3 5.25,-2.18 ; -5.25,2.18 -5.25,3.3 -3.45,5.1 3.45,5.1 5.25,3.3 5.25,2.18
Mechanical 8:
  lines w0.1: -5.7,0 -4.7,0 ; -4.7,-1 -4.7,0 ; -4.7,1 -4.7,0 ; -3.7,0 -4.7,0 ; -1,0 0,0 ; 0,-1 0,0 ; 0,1 0,0 ; 1,0 0,0 ; 3.7,0 4.7,0 ; 4.7,-1 4.7,0 ; 4.7,1 4.7,0 ; 5.7,0 4.7,0 ; -5.59,-1.78 -3.81,-1.78 -3.81,1.78 -5.59,1.78 -5.59,-1.78 ; 3.81,-1.78 5.59,-1.78 5.59,1.78 3.81,1.78 3.81,-1.78
Mechanical 14:
  circle w0.1: c0,0 r3.85
  circle w0.1: c0,0 r3.35
  lines w0.1: -5.25,-1.6 -5.25,1.6 ; -5.25,-1.6 -5.25,-3.3 ccw(c-3.45,-3.3) -3.45,-5.1 3.45,-5.1 5.25,-3.3 5.25,-1.6 ; -5.25,-1.6 -3.85,-1.6 -3.85,1.6 -5.25,1.6 ; -5.25,1.6 -5.25,3.3 -3.45,5.1 3.45,5.1 5.25,3.3 5.25,1.6 ; 5.25,-1.6 5.25,1.6 ; 5.25,-1.6 3.85,-1.6 3.85,1.6 5.25,1.6
3D body "IND_COILCRAFT_MSS1038.stp": height 4, standoff 0, extent -5.25,-5.1 5.25,5.1